# Altium footprint library 1008(2520 Metric).PcbLib: 1 footprints
Each footprint in its own frame and in the unit in brackets; x right, y up, seen from the top. Pads: shape width x height; smd on the part's side, far side on the other; paste and mask are expansions set on the pad; w line width, h text height; cw(c..) or ccw(c..) is an arc to the next point about the centre after c.
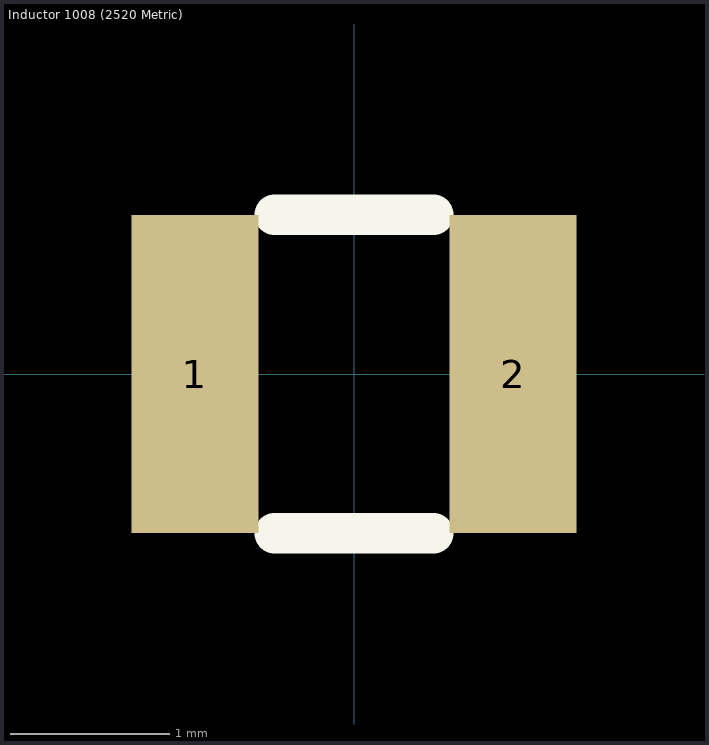
[diagram p0: the footprint, top view; thin cyan lines are the x and y axes]

## Inductor 1008 (2520 Metric) [mm]
height 1.2
pads (2):
  rect 0.8x2 smd: 1(-1,0) 2(1,0)
Top Overlay:
  lines w0.254: -0.5,-1 0.5,-1 ; -0.5,1 0.5,1
3D body: height 0.55, standoff 0, extent -1.202,-1 1.2,1